# Altium footprint library XDCR_PEC12R-2220F-S0024.PcbLib: 1 footprints
Each footprint in its own frame and in the unit in brackets; x right, y up, seen from the top. Pads: shape width x height; smd on the part's side, far side on the other; paste and mask are expansions set on the pad; w line width, h text height; cw(c..) or ccw(c..) is an arc to the next point about the centre after c.
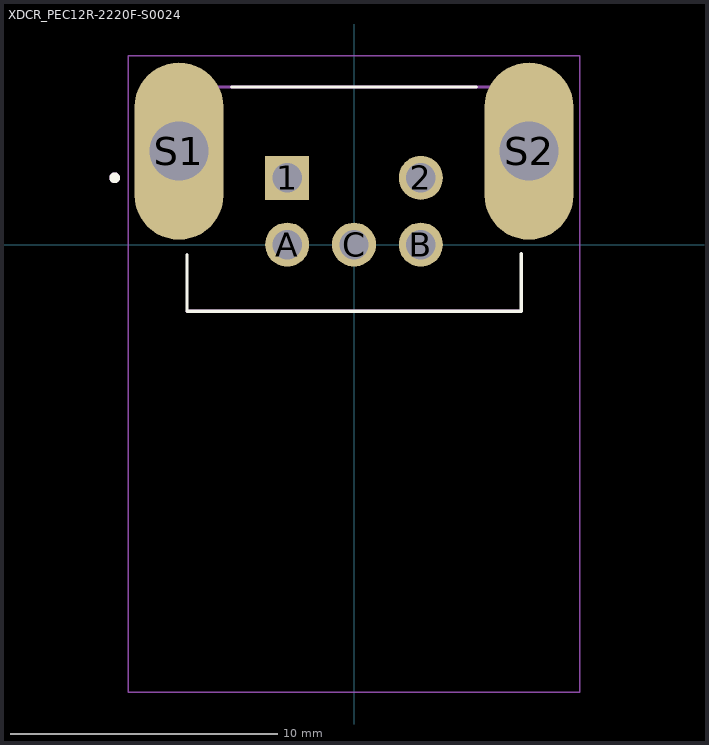
[diagram p0: the footprint, top view; thin cyan lines are the x and y axes]

## XDCR_PEC12R-2220F-S0024 [mm]
pads (7):
  rect 1.65x1.65 hole 1.1: 1(-2.5,2.5)
  round 1.65 hole 1.1: 2(2.5,2.5) A(-2.5,0) B(2.5,0) C(0,0)
  oval 3.316x6.632 hole 2.2 square: S1(-6.55,3.5) S2(6.55,3.5)
Top Overlay:
  circle w0.2: c-8.958,2.5 r0.1
  lines w0.127: -6.251,-0.385 -6.25,-2.5 ; -4.572,5.9 4.572,5.9 ; -4.522,5.9 4.522,5.9 ; -4.472,5.9 4.472,5.9 ; 6.25,-2.5 6.25,-0.339 ; 6.254,-0.412 6.254,-2.5 ; 6.259,-0.342 6.254,-0.347 6.254,-2.5 ; -6.25,-2.5 -6.25,-0.381 -6.25,-2.5 ; -6.25,-2.5 -3.5,-2.5 ; -6.25,-2.5 -3.5,-2.5 ; -3.5,-2.5 3.5,-2.5 ; -3.5,-2.5 3.5,-2.5 ; 3.5,-2.5 6.254,-2.5 ; 3.5,-2.5 6.254,-2.5
Mechanical 13:
  circle w0.2: c-8.958,2.5 r0.1
  lines w0.127: -6.25,-2.5 -3.5,-2.5 3.5,-2.5 6.25,-2.5 ; -6.25,5.9 6.25,5.9
Mechanical 15:
  lines w0.05: -8.458,-16.75 -8.458,7.066 8.458,7.066 8.458,-16.75 -8.458,-16.75
3D body "step_temp.STEP": height 16.7, standoff -3.9, extent -6.41,-20 6.41,2.4